# EAGLE library part CBTL02043B (library nxp_60)
AAL Eindhoven MK
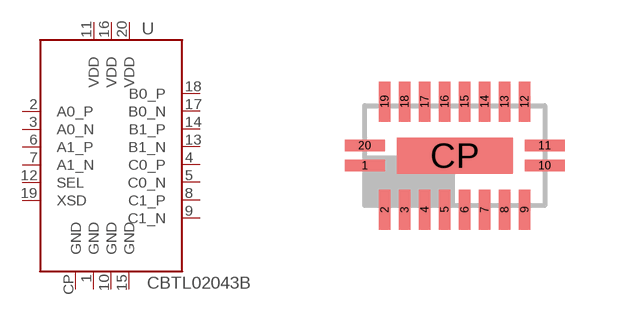
[diagram p40: symbol with the pads of SOT764; footprint SOT764]

Designator prefix U

## CBTL02043BBQ  [SOT764]
1  GND
2  A0_P
3  A0_N
4  C0_P
5  C0_N
6  A1_P
7  A1_N
8  C1_P
9  C1_N
10  GND
11  VDD
12  SEL  in
13  B1_N
14  B1_P
15  GND
16  VDD
17  B0_N
18  B0_P
19  XSD  in
20  VDD
CP  GND

## Footprint SOT764 (pad centres in mm)
SOT764 DHVQFN20: plastic dual in-line compatible thermal enhanced very thin quad flat package; no leads; 20 terminals; body 2.5 x 4.5 x 0.85 mm JEDEC: MO-241 IEC: ---
smd 1 x 0.29: 1 -2.25,-0.25; 10 2.25,-0.25; 11 2.25,0.25; 20 -2.25,0.25
smd 0.29 x 1: 2 -1.75,-1.35; 3 -1.25,-1.35; 4 -0.75,-1.35; 5 -0.25,-1.35; 6 0.25,-1.35; 7 0.75,-1.35; 8 1.25,-1.35; 9 1.75,-1.35; 12 1.75,1.35; 13 1.25,1.35; 14 0.75,1.35; 15 0.25,1.35; 16 -0.25,1.35; 17 -0.75,1.35; 18 -1.25,1.35; 19 -1.75,1.35
smd 2.9 x 0.9: CP 0,0